# Altium schematic symbol library Power.SchLib: 14 symbols
Pins are listed as number, name and electrical type; pins without a type are passive.

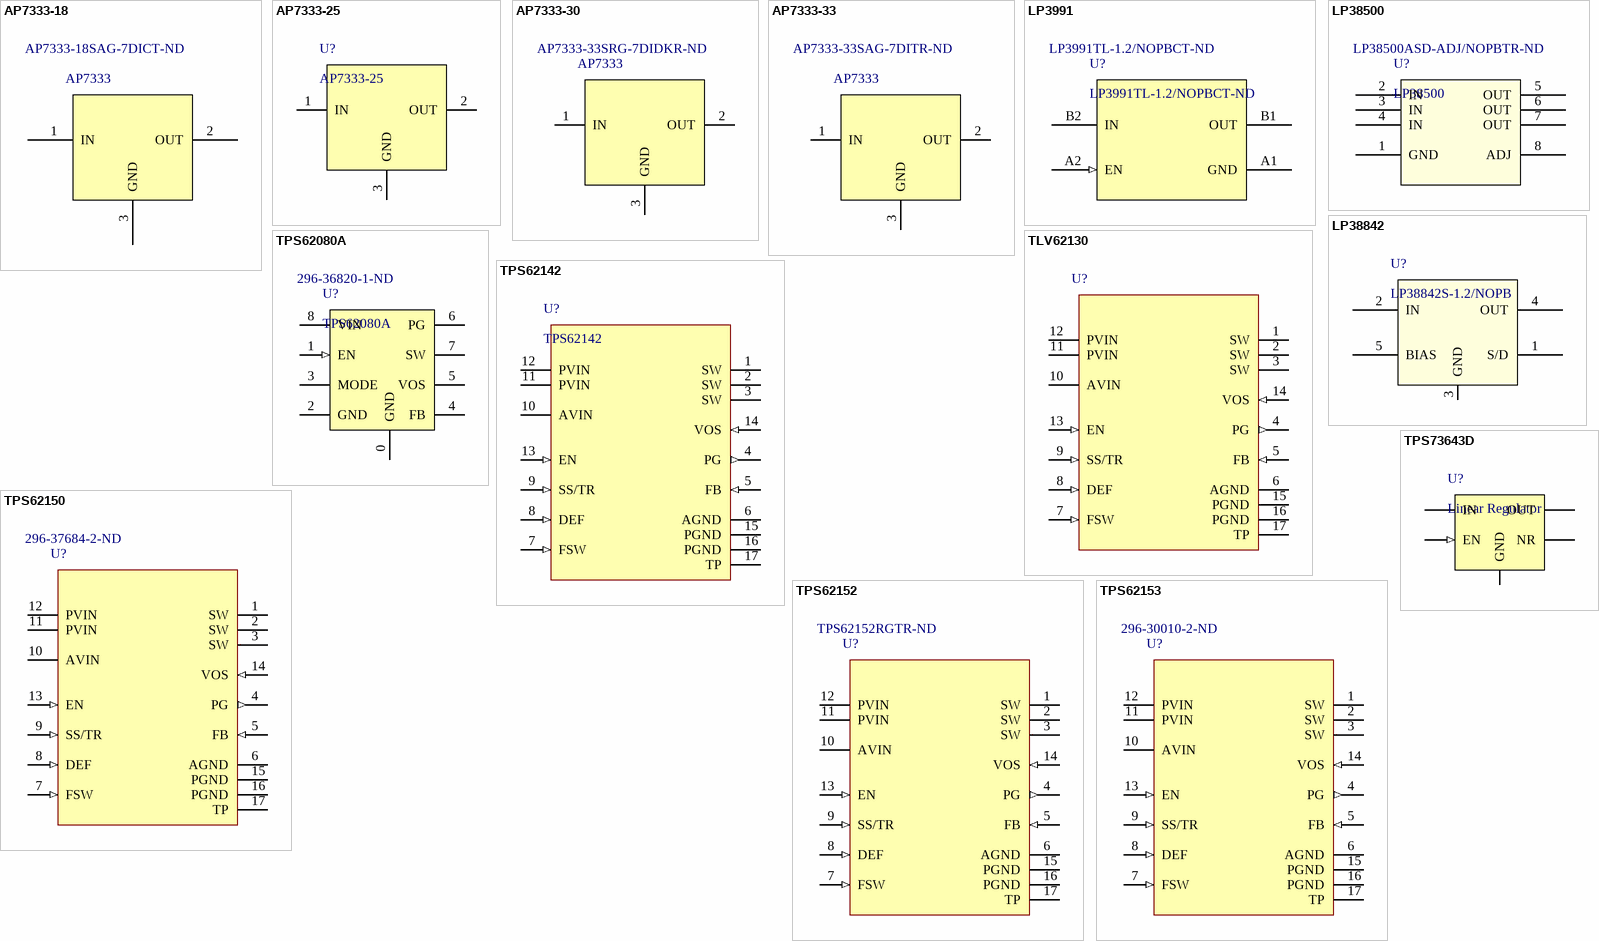
[diagram p0: symbols AP7333-18 to TPS73643D]

## AP7333-18
designator AP7333  Supplier Part Number 1: AP7333-18SAG-7DICT-ND
Linear DC Regulator Fixed 1.8; Supplier 1: Digi-Key
footprint SOT-23 (AP7333xx Package Linear Regulator)
pins: 1 IN (power), 2 OUT (power), 3 GND (power)

## AP7333-25
designator U?
Linear DC Regulator Fixed 2.5; Supplier 1: Digi-Key; Supplier 2: Arrow; Supplier Part Number 1: AP7333-25SAG-7DICT-ND; Supplier Part Number 2: AP7333-25SRG-7
footprint SOT-23 (AP7333xx Package Linear Regulator)
pins: 1 IN (power), 2 OUT (power), 3 GND (power)

## AP7333-30
designator AP7333  Supplier Part Number 1: AP7333-33SRG-7DIDKR-ND
Linear DC Regulator Fixed 3V; Supplier 1: Digi-Key
footprint SOT-23 (AP7333xx Package Linear Regulator)
pins: 1 IN (power), 2 OUT (power), 3 GND (power)

## AP7333-33
designator AP7333  Supplier Part Number 2: AP7333-33SAG-7DITR-ND
Linear DC Regulator Fixed 3.3; Supplier 1: Digi-Key; Supplier 2: Digi-Key; Supplier Part Number 1: AP7333-33SRG-7DICT-ND
footprint SOT-23 (AP7333xx Package Linear Regulator)
pins: 1 IN (power), 2 OUT (power), 3 GND (power)

## LP3991
designator U?, comment LP3991TL-1.2/NOPBCT-ND
Linear DC Regulator; Supplier 1: Digi-Key; Supplier Part Number 1: LP3991TL-1.2/NOPBCT-ND
footprint PCBComponent_1
pins: A1 GND (power), A2 EN (in), B1 OUT (power), B2 IN (power)

## LP38500
designator U?  Supplier Part Number 1: LP38500ASD-ADJ/NOPBTR-ND
Linear DC Regulator; Supplier 1: Digi-Key
footprint WSON (with thermal vias) (DC/DC LDO Buck Regulator)
pins: 1 GND (power), 2 IN (power), 3 IN, 4 IN (power), 5 OUT, 6 OUT, 7 OUT, 8 ADJ (power)

## LP38842
designator U?, comment LP38842S-1.2/NOPB
Linear DC Regulator
pins: 1 S/D (power), 2 IN (power), 3 GND (power), 4 OUT (power), 5 BIAS (power)

## TLV62130
designator U?, comment DC/DC Regulator  (value not drawn)
DC/DC Buck Regulator; Supplier 1: Digi-Key; Supplier Part Number 1: 296-35978-1-ND
footprint QFN-16 (with thermal vias) (DC/DC Buck Regulator)
pins: 1 SW (power), 2 SW (power), 3 SW (power), 4 PG (out), 5 FB (in), 6 AGND (power), 7 FSW (in), 8 DEF (in), 9 SS/TR (in), 10 AVIN (power), 11 PVIN (power), 12 PVIN (power), 13 EN (in), 14 VOS (in), 15 PGND (power), 16 PGND (power), 17 TP (power)

## TPS62080A
designator U?  Supplier Part Number 1: 296-36820-1-ND
1.2A Step Down Converter; Supplier 1: Digi-Key
footprint SON (with thermal vias) (DC/DC LDO Buck Regulator)
pins: 0 GND (power), 1 EN (in), 2 GND (power), 3 MODE, 4 FB (power), 5 VOS (power), 6 PG, 7 SW, 8 VIN (power)

## TPS62142
designator U?
DC/DC Buck Regulator 2A; Supplier 1: Digi-Key; Supplier Part Number 1: 296-29940-1-ND
footprint QFN-16 (with thermal vias) (DC/DC Buck Regulator)
pins: 1 SW (power), 2 SW (power), 3 SW (power), 4 PG (out), 5 FB (in), 6 AGND (power), 7 FSW (in), 8 DEF (in), 9 SS/TR (in), 10 AVIN (power), 11 PVIN (power), 12 PVIN (power), 13 EN (in), 14 VOS (in), 15 PGND (power), 16 PGND (power), 17 TP (power)

## TPS62150
designator U?, comment Supplier Part Number 1: 296-37684-2-ND  (hidden comment: DC/DC Regulator)
DC/DC Buck Regulator; Supplier 1: Digi-Key
footprint QFN-16 (with thermal vias) (DC/DC Buck Regulator)
pins: 1 SW (power), 2 SW (power), 3 SW (power), 4 PG (out), 5 FB (in), 6 AGND (power), 7 FSW (in), 8 DEF (in), 9 SS/TR (in), 10 AVIN (power), 11 PVIN (power), 12 PVIN (power), 13 EN (in), 14 VOS (in), 15 PGND (power), 16 PGND (power), 17 TP (power)

## TPS62152
designator U?, comment Supplier Part Number 1: TPS62152RGTR-ND  (hidden comment: DC/DC Regulator)
DC/DC Buck Regulator; Supplier 1: Digi-Key
footprint QFN-16 (with thermal vias) (DC/DC Buck Regulator)
pins: 1 SW (power), 2 SW (power), 3 SW (power), 4 PG (out), 5 FB (in), 6 AGND (power), 7 FSW (in), 8 DEF (in), 9 SS/TR (in), 10 AVIN (power), 11 PVIN (power), 12 PVIN (power), 13 EN (in), 14 VOS (in), 15 PGND (power), 16 PGND (power), 17 TP (power)

## TPS62153
designator U?, comment Supplier Part Number 1: 296-30010-2-ND  (hidden comment: DC/DC Regulator)
DC/DC Buck Regulator; Supplier 1: Digi-Key
footprint QFN-16 (with thermal vias) (DC/DC Buck Regulator)
pins: 1 SW (power), 2 SW (power), 3 SW (power), 4 PG (out), 5 FB (in), 6 AGND (power), 7 FSW (in), 8 DEF (in), 9 SS/TR (in), 10 AVIN (power), 11 PVIN (power), 12 PVIN (power), 13 EN (in), 14 VOS (in), 15 PGND (power), 16 PGND (power), 17 TP (power)

## TPS73643D
designator U?, comment Linear Regulator
4.3V Linear Regulator; Supplier 1: Digi-Key; Supplier Part Number 1: 296-17498-1-ND
footprint SOT-23-5 (TPS736xx DBV Package Linear Regulator)
pins: 1 IN (power), 2 GND (power), 3 EN (in), 4 NR (power), 5 OUT (power)